# Altium footprint library JFD_Misc.PcbLib: 7 footprints
Each footprint in its own frame and in the unit in brackets; x right, y up, seen from the top. Pads: shape width x height; smd on the part's side, far side on the other; paste and mask are expansions set on the pad; w line width, h text height; cw(c..) or ccw(c..) is an arc to the next point about the centre after c.
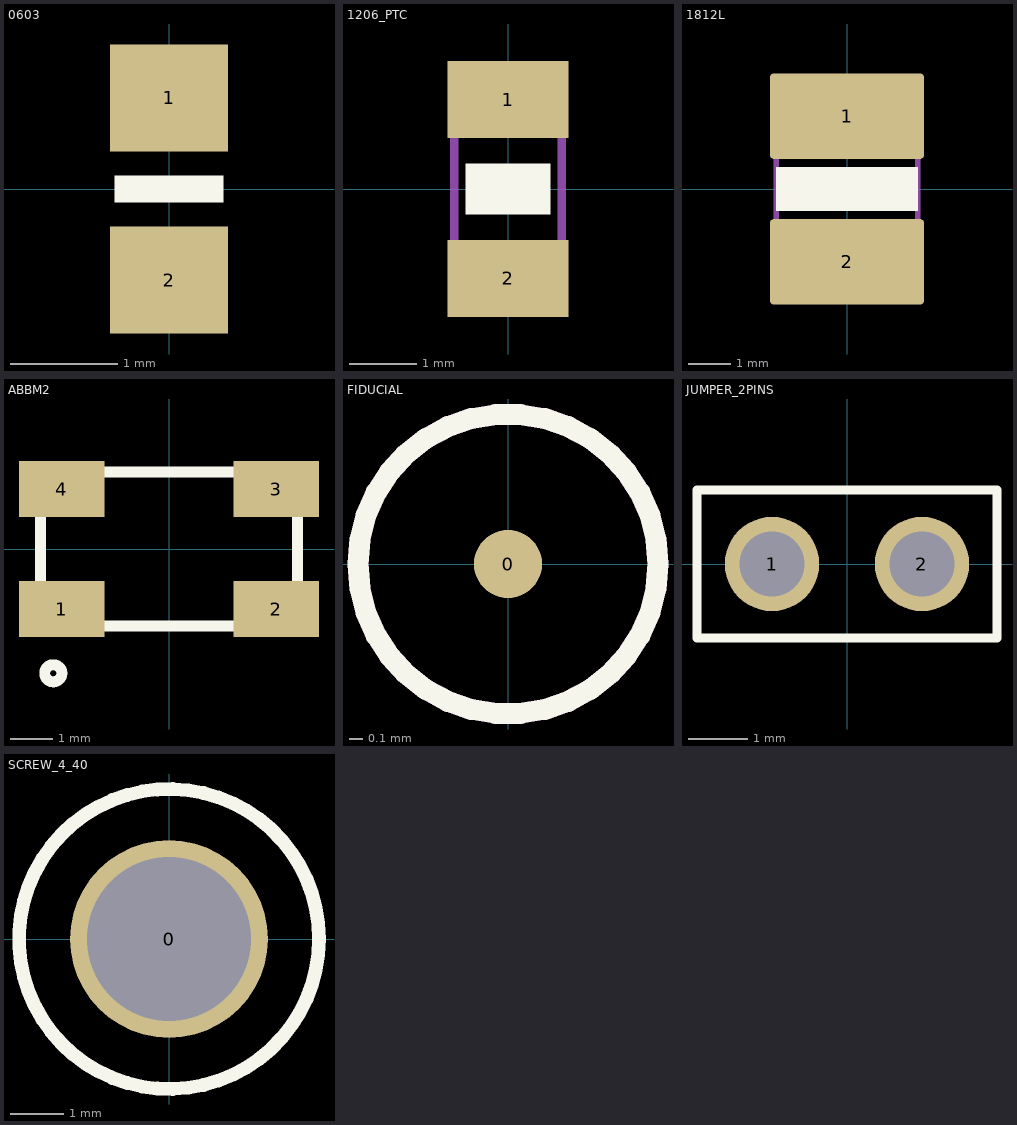
[diagram p0: the footprints below, top view; thin cyan lines are the x and y axes]

## 0603 [mm]
height 0.8
pads (2):
  rect 1.1x1 smd: 1(0,0.85) 2(0,-0.85)
Top Overlay:
  region: -0.508,0.127 -0.508,-0.127 0.508,-0.127 0.508,0.127
3D body: height 0.8, standoff 0, extent -0.4,-0.8 0.4,0.8

## 1206_PTC [mm]
pads (2):
  rect 1.8x1.15 smd: 1(0,1.33) 2(0,-1.33)
Top Overlay:
  region: -0.635,0.381 -0.635,-0.381 0.635,-0.381 0.635,0.381
Mechanical 13:
  lines w0.125: -0.8,-1.6 0.8,-1.6 0.8,1.6 -0.8,1.6 -0.8,-1.6
3D body: height 1, standoff 0, extent -0.8,-1.6 0.8,1.6

## 1812L [mm]
height 2.6
pads (2):
  rrect10% 3.6x2 smd: 1(0,1.7) 2(0,-1.7)
Top Overlay:
  region: -1.651,0.508 -1.651,-0.508 1.651,-0.508 1.651,0.508
Mechanical 13:
  lines w0.125: -1.651,-2.413 1.651,-2.413 1.651,2.413 -1.651,2.413 -1.651,-2.413
3D body: height 2.6, standoff 0, extent -1.6,-2.25 1.6,2.25

## ABBM2 [mm]
height 1.2
pads (4):
  rect 2x1.3 smd: 1(-2.5,-1.4) 2(2.5,-1.4) 3(2.5,1.4) 4(-2.5,1.4)
Top Overlay:
  circle w0.254: c-2.7,-2.9 r0.2
  lines w0.254: -3,-1.8 3,-1.8 3,1.8 -3,1.8 -3,-1.8
3D body: height 1.2, standoff 0, extent -3,-1.8 3,1.8

## FIDUCIAL [mm]
pads (1):
  round 0.5 smd paste+0 mask+0.75: 0(0,0)
Top Overlay keep-out:
  circle w0.152: c0,0 r1.1

## JUMPER_2PINS [mm]
height 5
pads (2):
  round 1.6 hole 1.1: 1(-1.27,0) 2(1.27,0)
Top Overlay:
  lines w0.152: -2.54,-1.25 2.54,-1.25 2.54,1.25 -2.54,1.25 -2.54,-1.25
3D body: height 8, standoff -3.3, extent -2.54,-1.25 2.54,1.25

## SCREW_4_40 [mil]
pads (1):
  round 145 hole 120: 0(0,0)
Top Overlay:
  circle w10: c0,0 r110
Bottom Overlay:
  circle w10: c0,0 r110
Keep-Out Layer:
  circle w6: c0,0 r110